# EAGLE library part MC8-G (library con-phoenix-381_l)
Mini-Combicon 3.81mm horizontal 8-polig (mit Gegenstecker)
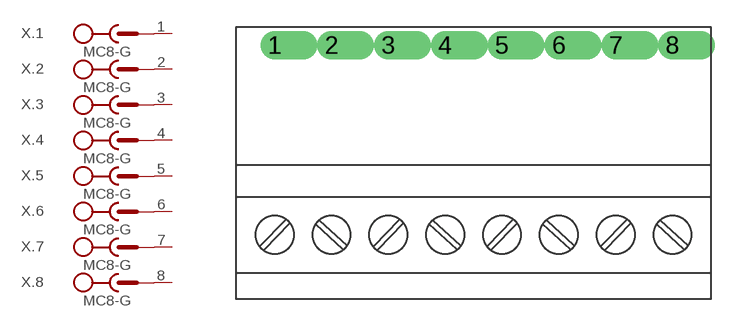
[diagram p14: symbol with the pads of MC8-G; footprint MC8-G]

Designator prefix X; gates .1=SK+V .2=SK+V .3=SK+V .4=SK+V .5=SK+V .6=SK+V .7=SK+V .8=SK+V

## MC8-G  [MC8-G]
1  .1:SK  pas
2  .2:SK  pas
3  .3:SK  pas
4  .4:SK  pas
5  .5:SK  pas
6  .6:SK  pas
7  .7:SK  pas
8  .8:SK  pas

## Footprint MC8-G (pad centres in mm)
Mini-Combicon 3.81mm horizontal 8-polig (mit Gegenstecker)
drill 1.27 offset: 1 -13.335,0; 2 -9.525,0; 3 -5.715,0; 4 -1.905,0; 5 1.905,0; 6 5.715,0; 7 9.525,0; 8 13.335,0